# EAGLE library part NJM4580 (library _mtvl_ic)
Dual Operational Amplifier
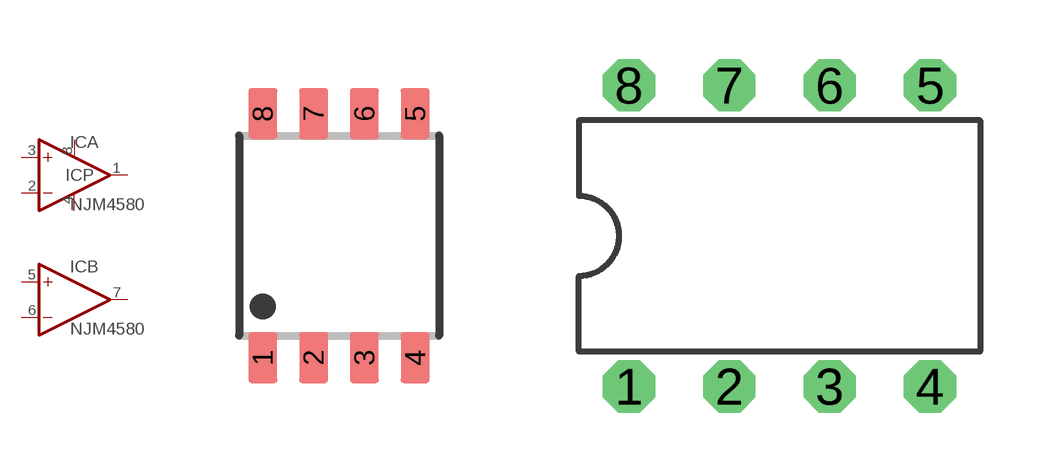
[diagram p54: symbol with the pads of DMP8_NISSHINBO; footprints DMP8_NISSHINBO, DIP8]

Designator prefix IC; gates A=OPAMP B=OPAMP P=PWR+--1

## NJM4580M  [DMP8_NISSHINBO]
1  A:OUT  out
2  A:-IN  in
3  A:+IN  in
4  P:V-  pwr
5  B:+IN  in
6  B:-IN  in
7  B:OUT  out
8  P:V+  pwr

## NJM4580D  [DIP8]
Pads as for DMP8_NISSHINBO

## Footprint DMP8_NISSHINBO (pad centres in mm)
DMP8
smd 0.72 x 1.27: 1 -1.905,-3.05; 2 -0.635,-3.05; 3 0.635,-3.05; 4 1.905,-3.05; 5 1.905,3.05; 6 0.635,3.05; 7 -0.635,3.05; 8 -1.905,3.05

## Footprint DIP8 (pad centres in mm)
Dual In Line Package
drill 0.813 pad 1.27 octagon: 1 -3.81,-3.81; 2 -1.27,-3.81; 3 1.27,-3.81; 4 3.81,-3.81; 5 3.81,3.81; 6 1.27,3.81; 7 -1.27,3.81; 8 -3.81,3.81